# Altium schematic symbol library Cap_Cornell_Dubilier_SK010M050ST_eec.SchLib: 1 symbol
Pins are listed as number, name and electrical type; pins without a type are passive.

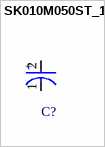
[diagram p0: symbol SK010M050ST_1]

## SK010M050ST_1
designator C?  (value not drawn)
footprint Cornell_Dubilier_SK010M050ST_0 - duplicate
pins: 1 C, 2 A
text: +